# EAGLE library part 6120XX22821_61201622821 (library con-wurth-board-header)
2.54 mm Male Box Header with long lever KIND PROPERTIES: Pitch 2.54 mm Gender:Male MATERIAL PROPERTIES: Insulator Material:PBT Insulator Flammability Rating UL94 V-0 Insulator Color:Black Contact Material :Copper Alloy Contact Plating :Gold Contact Type: Stamped GENERAL INFORMATION: Operating Temperature:-40 °C up to +125 °C Compliance:RoHS Working Voltage: 250 V (AC) Withstanding Voltage:500 V (AC) Contact Resistance: 20 mΩ Insulation Resistance:1000 MΩ CERTIFICATION UL Approval:E323964 PACKAGING PROPERTIES Packaging :Tray <https://www.we-online.de/katalog/media/o58844v209%20Family_2.54mm_long_lever_WR-BHD_6120xx22x21.jpg> Details see: https://www.we-online.de/katalog/en/em/BHD_2_54_MALE_BOX_HEADER_WITH_LONG_LEVER_6120XX22821 Updated by Yingchun,Shan 2019-10-30 2019 (C) Würth Elektronik
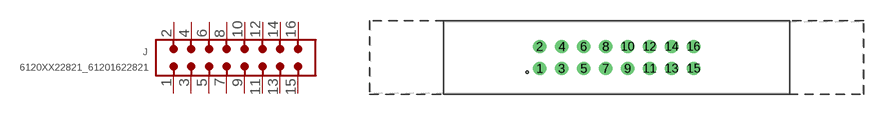
[diagram p131: symbol with the pads of 61201622821; footprint 61201622821]

Designator prefix J

## 6120XX22821_61201622821 (CONTACT-RESISTANCE: 20mOhm; DATASHEET-URL: https://www.we-online.com/redexpert/spec/61201622821?ae; GENDER: Male; IR: 3A; LENGTH: 39.82mm; MOUNT: THT; PACKAGING: Tray; PART-NUMBER: 61201622821; PINS: 16; PITCH: 2.54mm; TYPE: Straight; VALUE: 61201622821; WORKING-VOLTAGE: 250V(AC))  [61201622821]
1  1  pas
2  2  pas
3  3  pas
4  4  pas
5  5  pas
6  6  pas
7  7  pas
8  8  pas
9  9  pas
10  10  pas
11  11  pas
12  12  pas
13  13  pas
14  14  pas
15  15  pas
16  16  pas

## Footprint 61201622821 (pad centres in mm)
WR-BHD 2.54 mm Male Box Header with long lever,16 Pins
drill 1.02: 1 -8.89,-1.27; 2 -8.89,1.27; 3 -6.35,-1.27; 4 -6.35,1.27; 5 -3.81,-1.27; 6 -3.81,1.27; 7 -1.27,-1.27; 8 -1.27,1.27; 9 1.27,-1.27; 10 1.27,1.27; 11 3.81,-1.27; 12 3.81,1.27; 13 6.35,-1.27; 14 6.35,1.27; 15 8.89,-1.27; 16 8.89,1.27